# EAGLE library part RFSA3714 (library VNA)
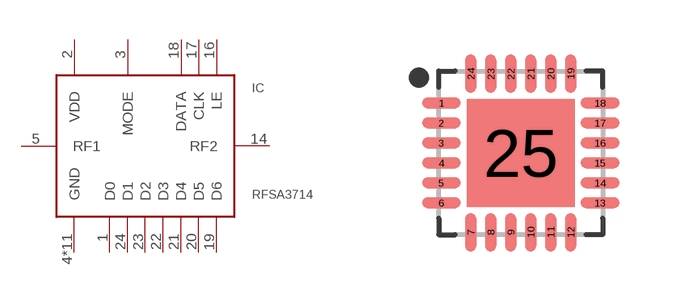
[diagram p16: symbol with the pads of QFN50P400X400X75-25T270; footprint QFN50P400X400X75-25T270]

Designator prefix IC

## RFSA3714  [QFN50P400X400X75-25T270]
1  D0
2  VDD
3  MODE
4  GND
5  RF1
6  GND
7  GND
8  GND
9  GND
10  GND
11  GND
12  GND
13  GND
14  RF2
15  GND
16  LE
17  CLK
18  DATA
19  D6
20  D5
21  D4
22  D3
23  D2
24  D1
25  GND

## Footprint QFN50P400X400X75-25T270 (pad centres in mm)
24-QFN, 0.50 mm pitch, 4.00 X 4.00 X 0.75 mm body, 2.70 X 2.70 mm thermal pad 24-pin QFN package with 0.50 mm pitch with body size 4.00 X 4.00 X 0.75 mm and thermal pad size 2.70 X 2.70 mm
smd 0.96 x 0.27: 1 -1.985,1.25; 2 -1.985,0.75; 3 -1.985,0.25; 4 -1.985,-0.25; 5 -1.985,-0.75; 6 -1.985,-1.25; 13 1.985,-1.25; 14 1.985,-0.75; 15 1.985,-0.25; 16 1.985,0.25; 17 1.985,0.75; 18 1.985,1.25
smd 0.27 x 0.96: 7 -1.25,-1.985; 8 -0.75,-1.985; 9 -0.25,-1.985; 10 0.25,-1.985; 11 0.75,-1.985; 12 1.25,-1.985; 19 1.25,1.985; 20 0.75,1.985; 21 0.25,1.985; 22 -0.25,1.985; 23 -0.75,1.985; 24 -1.25,1.985
smd 2.7 x 2.7: 25 0,0